# EAGLE library part THAT2180 (library nw2s)
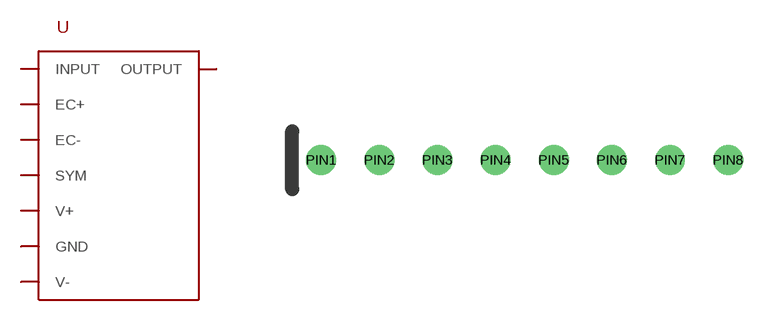
[diagram p13: symbol with the pads of SIP-8; footprint SIP-8]

Designator prefix -

## THAT2180  [SIP-8]
PIN1  INPUT
PIN2  EC+
PIN3  EC-
PIN4  SYM
PIN5  V-
PIN6  GND
PIN7  V+
PIN8  OUTPUT

## Footprint SIP-8 (pad centres in mm)
drill 0.8: PIN1 -8.89,0; PIN2 -6.35,0; PIN3 -3.81,0; PIN4 -1.27,0; PIN5 1.27,0; PIN6 3.81,0; PIN7 6.35,0; PIN8 8.89,0